# Altium schematic symbol library 2scr572d3tl1.SchLib: 1 symbol
Pins are listed as number, name and electrical type; pins without a type are passive.

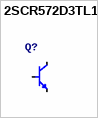
[diagram p0: symbol 2SCR572D3TL1]

## 2SCR572D3TL1
designator Q?
pins: 1 B, 3 E, 4 C